# Altium schematic symbol library Passive-Filter.SchLib: 2 symbols
Pins are listed as number, name and electrical type; pins without a type are passive.

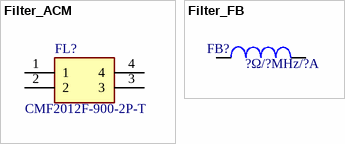
[diagram p0: symbols Filter_ACM to Filter_FB]

## Filter_ACM
designator FL?, comment CMF2012F-900-2P-T
共模滤波器; Manufacturer_Name: HYHONGYEX(宏业); Manufacturer_Part_Number: CMF2012F-900-2P-T; LCSC: C963734
footprint ACM_SMD-4P-2X1.2MM
pins: 1, 2, 3, 4

## Filter_FB
designator FB?, comment ?Ω/?MHz/?A
磁珠; Manufacturer_Name: *; Manufacturer_Part_Number: *
footprint FB_0603 (Chip Inductor, 2-Leads, Body 1.55x0.80mm, IPC Medium Density)
footprint FB_0805 (Chip Inductor, 2-Leads, Body 2.00x1.25mm, IPC Medium Density)
footprint FB_0402
pins: 1, 2